# Altium footprint library TI.PcbLib: 5 footprints
Each footprint in its own frame and in the unit in brackets; x right, y up, seen from the top. Pads: shape width x height; smd on the part's side, far side on the other; paste and mask are expansions set on the pad; w line width, h text height; cw(c..) or ccw(c..) is an arc to the next point about the centre after c.
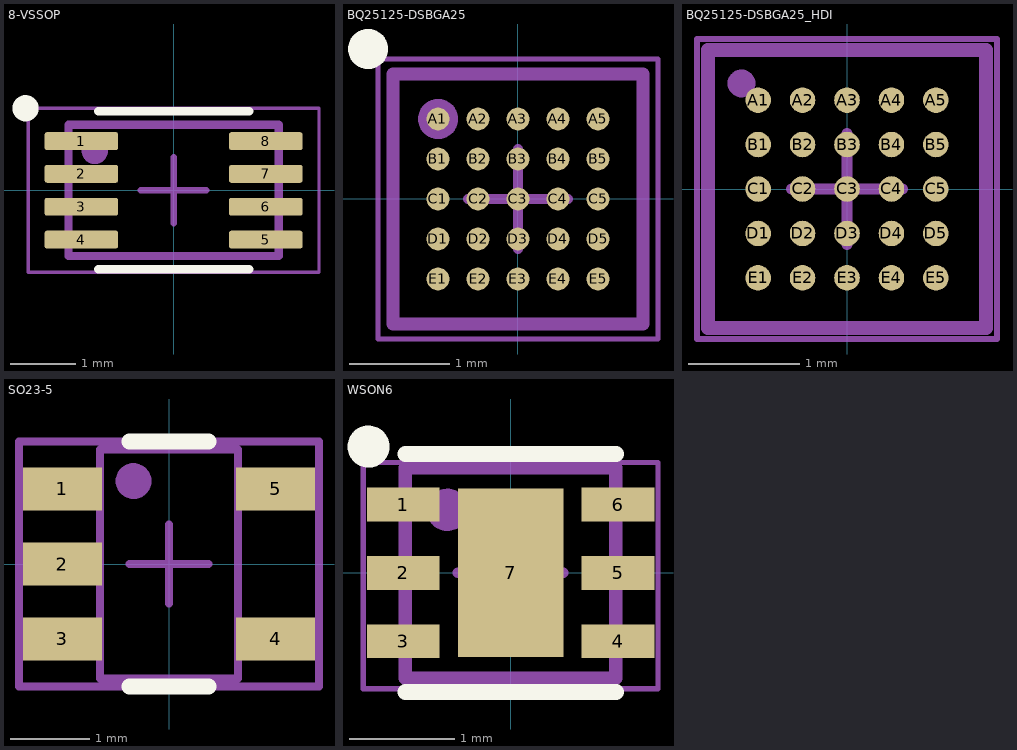
[diagram p0: the footprints below, top view; thin cyan lines are the x and y axes]

## 8-VSSOP [mm] "8-VSSOP"
pads (8):
  rrect25% 1.12x0.27 smd: 1(-1.405,0.75) 2(-1.405,0.25) 3(-1.405,-0.25) 4(-1.405,-0.75) 5(1.405,-0.75) 6(1.405,-0.25) 7(1.405,0.25) 8(1.405,0.75)
Top Overlay:
  circle w0.2: c-2.255,1.25 r0.1
  lines w0.127: -1.15,-1.205 1.15,-1.205 ; -1.15,1.205 1.15,1.205
Top 3D Body:
  circle w0.2: c-1.2,0.6 r0.1
  lines w0.127: -1.6,-1 -1.6,1 1.6,1 1.6,-1 -1.6,-1
Top Assembly:
  lines w0.05: -2.215,-1.25 -2.215,1.25 2.215,1.25 2.215,-1.25 -2.215,-1.25
  lines w0.1: -0.5,0 0.5,0 ; 0,-0.5 0,0.5
3D body "TI-DCU0008A.stp": height 0.82, standoff 0.05, extent -1.55,-1 1.55,1

## BQ25125-DSBGA25 [mm] "25-Pin DSBGA footprint for BQ25125"
pads (25):
  round 0.23 smd mask+0.05: A1(-0.8,0.8) A2(-0.4,0.8) A3(0,0.8) A4(0.4,0.8) A5(0.8,0.8) B1(-0.8,0.4) B2(-0.4,0.4) B3(0,0.4) B4(0.4,0.4) B5(0.8,0.4) C1(-0.8,0) C2(-0.4,0) C3(0,0) C4(0.4,0) C5(0.8,0) D1(-0.8,-0.4) D2(-0.4,-0.4) D3(0,-0.4) D4(0.4,-0.4) D5(0.8,-0.4) E1(-0.8,-0.8) E2(-0.4,-0.8) E3(0,-0.8) E4(0.4,-0.8) E5(0.8,-0.8)
Top Overlay:
  circle w0.2: c-1.5,1.5 r0.1
Top 3D Body:
  circle w0.2: c-0.8,0.8 r0.1
  lines w0.127: -1.25,-1.25 -1.25,1.25 1.25,1.25 1.25,-1.25 -1.25,-1.25
Top Assembly:
  lines w0.05: -1.4,-1.4 1.4,-1.4 1.4,1.4 -1.4,1.4 -1.4,-1.4
  lines w0.1: -0.5,0 0.5,0 ; 0,-0.5 0,0.5
3D body "step_temp.STEP": height 0.5, standoff 0, extent -1.234,-1.265 1.234,1.265

## BQ25125-DSBGA25_HDI [mm] "25-Pin DSBGA footprint for BQ25125"
pads (25):
  round 0.23 smd mask+0.051: A1(-0.8,0.8) A2(-0.4,0.8) A3(0,0.8) A4(0.4,0.8) A5(0.8,0.8) B1(-0.8,0.4) B2(-0.4,0.4) B3(0,0.4) B4(0.4,0.4) B5(0.8,0.4) C1(-0.8,0) C2(-0.4,0) C3(0,0) C4(0.4,0) C5(0.8,0) D1(-0.8,-0.4) D2(-0.4,-0.4) D3(0,-0.4) D4(0.4,-0.4) D5(0.8,-0.4) E1(-0.8,-0.8) E2(-0.4,-0.8) E3(0,-0.8) E4(0.4,-0.8) E5(0.8,-0.8)
Top 3D Body:
  circle w0.15: c-0.95,0.95 r0.05
  lines w0.127: -1.25,-1.25 1.25,-1.25 1.25,1.25 -1.25,1.25 -1.25,-1.25
Top Assembly:
  lines w0.05: -1.35,-1.35 -1.35,1.35 1.35,1.35 1.35,-1.35 -1.35,-1.35
  lines w0.1: -0.5,0 0.5,0 ; 0,-0.5 0,0.5
3D body "step_temp.STEP": height 0.5, standoff 0, extent -1.234,-1.265 1.234,1.265

## SO23-5 [mm] "SOT23-5 (DBV0005A)"
pads (5):
  rect 1x0.55 smd mask+0.07: 1(-1.35,0.95) 2(-1.35,0) 3(-1.35,-0.95) 4(1.35,-0.95) 5(1.35,0.95)
Top Overlay:
  lines w0.2: -0.5,-1.55 0.5,-1.55 ; -0.5,1.55 0.5,1.55
Top 3D Body:
  circle w0.254: c-0.45,1.05 r0.1
  lines w0.1: -0.875,-1.45 -0.875,1.45 0.875,1.45 0.875,-1.45 -0.875,-1.45
Top Assembly:
  lines w0.1: -0.5,0 0.5,0 ; 0,-0.5 0,0.5 ; -1.9,-1.55 -1.9,1.55 1.9,1.55 1.9,-1.55 -1.9,-1.55
3D body "TI_DBV0005A.stp": height 1.2, standoff 0, extent -1.4,-1.45 1.4,1.45

## WSON6 [mm] "WSON6 with exposed pad"
pads (7):
  rect 0.69x0.32 smd paste-0.07: 1(-1.02,0.65) 2(-1.02,0) 3(-1.02,-0.65) 4(1.02,-0.65) 5(1.02,0) 6(1.02,0.65)
  rect 1x1.6 smd paste-2: 7(0,0)
Top Overlay:
  circle w0.2: c-1.35,1.2 r0.1
  lines w0.15: -1,-1.13 1,-1.13 ; -1,1.13 1,1.13
Top Paste:
  region: 0.316,-0.506 -0.316,-0.506 -0.316,0.506 0.316,0.506
Top 3D Body:
  circle w0.2: c-0.6,0.6 r0.1
  lines w0.127: -1,-1 1,-1 1,1 -1,1 -1,-1
Top Assembly:
  lines w0.05: -1.4,-1.1 1.4,-1.1 1.4,1.05 -1.4,1.05 -1.4,-1.1
  lines w0.1: -0.5,0 0.5,0 ; 0,-0.5 0,0.5
3D body "TI_TPS25200.STEP": height 0.85, standoff 0.05, extent -1,-1 1,1